# Altium footprint library PCB2021.01270750.PcbLib: 52 footprints (part 4 of 4)
Each footprint in its own frame and in the unit in brackets; x right, y up, seen from the top. Pads: shape width x height; smd on the part's side, far side on the other; paste and mask are expansions set on the pad; w line width, h text height; cw(c..) or ccw(c..) is an arc to the next point about the centre after c.
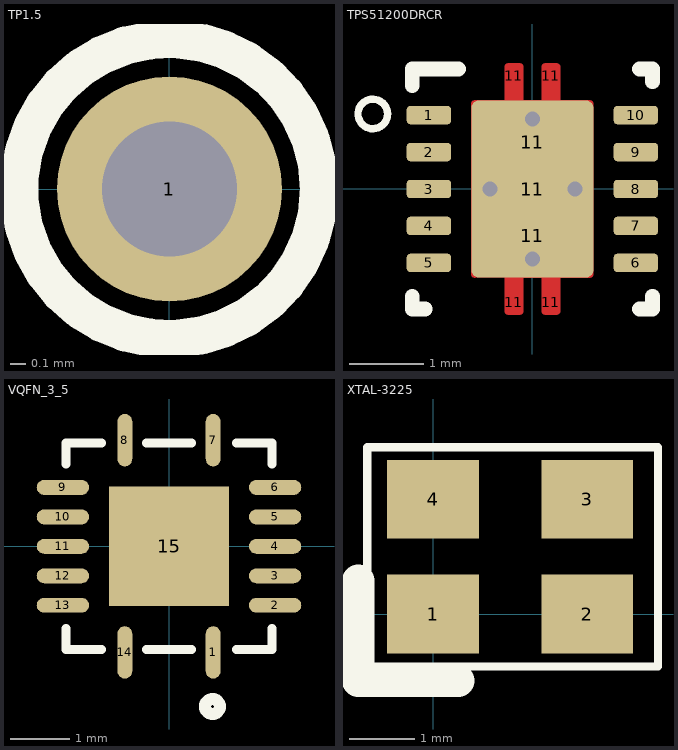
[diagram p3: the footprints below, top view; thin cyan lines are the x and y axes]

## TP1.5 [mm] "hole 0.9mm,pad 1.5mm"
height 5.842
pads (1):
  round 1.5 hole 0.9: 1(0,0)
Top Overlay:
  circle w0.254: c-0.003,0 r1

## TPS51200DRCR [mm] "TPS51200DRCR"
pads (17):
  rrect40% 0.6x0.25 smd: 1(-1.4,1) 2(-1.4,0.5) 3(-1.4,0) 4(-1.4,-0.5) 5(-1.4,-1) 6(1.4,-1) 7(1.4,-0.5) 8(1.4,0) 9(1.4,0.5) 10(1.4,1)
  rrect50% 0.25x0.34 on Top Paste: 11(-0.25,-1.53) 11(-0.25,1.53) 11(0.25,-1.53) 11(0.25,1.53)
  rrect50% 1.5x1.06 on Top Paste: 11(0,-0.63) 11(0,0.63)
  rrect12% 1.65x2.4 smd paste-1 mask-2: 11(0,0)
via 0.575,0 diameter 0.406 hole 0.203
via -0.575,0 diameter 0.406 hole 0.203
via 0,0.95 diameter 0.406 hole 0.203
via 0,-0.95 diameter 0.406 hole 0.203
Top Layer:
  region: -0.775,-1.2 -0.375,-1.2 -0.375,-1.65 -0.375,-1.66 -0.367,-1.678 -0.353,-1.692 -0.335,-1.7 -0.325,-1.7 -0.175,-1.7 -0.165,-1.7 -0.147,-1.692 -0.133,-1.678 -0.125,-1.66 -0.125,-1.65 -0.125,-1.2 0.125,-1.2 0.125,-1.65 0.125,-1.66 0.133,-1.678 0.147,-1.692 0.165,-1.7 0.175,-1.7 0.325,-1.7 0.335,-1.7 0.353,-1.692 0.367,-1.678 0.375,-1.66 0.375,-1.65 0.375,-1.2 0.775,-1.2 0.785,-1.2 0.803,-1.192 0.817,-1.178 0.825,-1.16 0.825,-1.15 0.825,1.15 0.825,1.16 0.817,1.178 0.803,1.192 0.785,1.2 0.775,1.2 0.375,1.2 0.375,1.65 0.375,1.66 0.367,1.678 0.353,1.692 0.335,1.7 0.325,1.7 0.175,1.7 0.165,1.7 0.147,1.692 0.133,1.678 0.125,1.66 0.125,1.65 0.125,1.2 -0.125,1.2 -0.125,1.65 -0.125,1.66 -0.133,1.678 -0.147,1.692 -0.165,1.7 -0.175,1.7 -0.325,1.7 -0.335,1.7 -0.353,1.692 -0.367,1.678 -0.375,1.66 -0.375,1.65 -0.375,1.2 -0.775,1.2 -0.785,1.2 -0.803,1.192 -0.817,1.178 -0.825,1.16 -0.825,1.15 -0.825,-1.15 -0.825,-1.16 -0.817,-1.178 -0.803,-1.192 -0.785,-1.2
Top Overlay:
  circle w0.1: c-2.159,1.016 r0.2
  lines w0.2: -1.625,-1.45 -1.625,-1.625 -1.45,-1.625 ; -1.625,1.4 -1.625,1.625 -1,1.625 ; 1.45,-1.625 1.625,-1.625 1.625,-1.45 ; 1.45,1.625 1.625,1.625 1.625,1.45

## VQFN_3_5 [mil] "VQFN_3_5"
height 220
pads (15):
  oval 10x35 smd: 1(29.53,-70.87) 7(29.53,70.87) 8(-29.53,70.87) 14(-29.53,-70.87)
  oval 35x10 smd: 2(70.87,-39.37) 3(70.87,-19.69) 4(70.87,0) 5(70.87,19.69) 6(70.87,39.37) 9(-70.87,39.37) 10(-70.87,19.69) 11(-70.87,0) 12(-70.87,-19.69) 13(-70.87,-39.37)
  rect 80x80 smd: 15(0,0)
Top Overlay:
  circle w8: c29,-107 r5
  lines w6: -68.9,-55 -68.9,-68.9 -45,-68.9 ; -68.9,55 -68.9,68.9 -45,68.9 ; -15,-68.9 15,-68.9 ; -15,68.9 15,68.9 ; 45,-68.9 68.9,-68.9 68.9,-55 ; 45,68.9 68.9,68.9 68.9,55

## XTAL-3225 [mm] "SMT,3.2x2.5mm, pin1/3 sig;pin2/4 gnd"
height 0.8
pads (4):
  rect 1.4x1.2 smd: 1(0,0) 2(2.35,0) 3(2.35,1.75) 4(0,1.75)
Top Overlay:
  lines w0.127: -1,-0.8 3.429,-0.8 3.429,2.54 -1,2.54 -1,-0.8
  lines w0.5: -1.143,0.508 -1.143,-1.016 0.381,-1.016